# EAGLE library part 79109-50 (library untitled)
RECEPTACAL
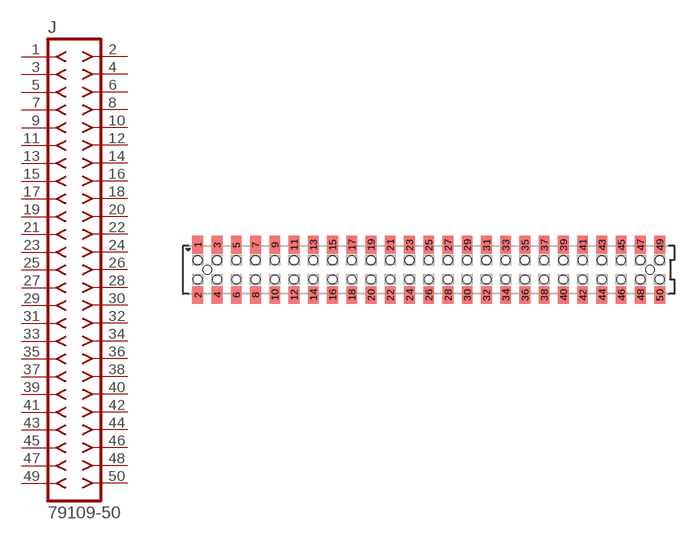
[diagram p182: symbol with the pads of 79109-50; footprint 79109-50]

Designator prefix J

## 79109-50  [79109-50]
1  1  pas
2  2  pas
3  3  pas
4  4  pas
5  5  pas
6  6  pas
7  7  pas
8  8  pas
9  9  pas
10  10  pas
11  11  pas
12  12  pas
13  13  pas
14  14  pas
15  15  pas
16  16  pas
17  17  pas
18  18  pas
19  19  pas
20  20  pas
21  21  pas
22  22  pas
23  23  pas
24  24  pas
25  25  pas
26  26  pas
27  27  pas
28  28  pas
29  29  pas
30  30  pas
31  31  pas
32  32  pas
33  33  pas
34  34  pas
35  35  pas
36  36  pas
37  37  pas
38  38  pas
39  39  pas
40  40  pas
41  41  pas
42  42  pas
43  43  pas
44  44  pas
45  45  pas
46  46  pas
47  47  pas
48  48  pas
49  49  pas
50  50  pas

## Footprint 79109-50 (pad centres in mm)
RECEPTACAL SMD Dual Row, Vertical, Pass-Thru
smd 1.12 x 1.83: 1 -24,2.6; 2 -24,-2.6; 3 -22,2.6; 4 -22,-2.6; 5 -20,2.6; 6 -20,-2.6; 7 -18,2.6; 8 -18,-2.6; 9 -16,2.6; 10 -16,-2.6; 11 -14,2.6; 12 -14,-2.6; 13 -12,2.6; 14 -12,-2.6; 15 -10,2.6; 16 -10,-2.6; 17 -8,2.6; 18 -8,-2.6; 19 -6,2.6; 20 -6,-2.6; 21 -4,2.6; 22 -4,-2.6; 23 -2,2.6; 24 -2,-2.6; 25 0,2.6; 26 0,-2.6; 27 2,2.6; 28 2,-2.6; 29 4,2.6; 30 4,-2.6; 31 6,2.6; 32 6,-2.6; 33 8,2.6; 34 8,-2.6; 35 10,2.6; 36 10,-2.6; 37 12,2.6; 38 12,-2.6; 39 14,2.6; 40 14,-2.6; 41 16,2.6; 42 16,-2.6; 43 18,2.6; 44 18,-2.6; 45 20,2.6; 46 20,-2.6; 47 22,2.6; 48 22,-2.6; 49 24,2.6; 50 24,-2.6
hole 0.914 at -23,0
hole 0.914 at -24,1
hole 0.914 at -24,-1
hole 0.914 at -22,-1
hole 0.914 at -22,1
hole 0.914 at -20,-1
hole 0.914 at -20,1
hole 0.914 at -18,1
hole 0.914 at -18,-1
hole 0.914 at -16,1
hole 0.914 at -16,-1
hole 0.914 at -14,1
hole 0.914 at -14,-1
hole 0.914 at -12,1
hole 0.914 at -12,-1
hole 0.914 at -10,-1
hole 0.914 at -10,1
hole 0.914 at -8,1
hole 0.914 at -8,-1
hole 0.914 at -6,1
hole 0.914 at -6,-1
hole 0.914 at -4,1
hole 0.914 at -4,-1
hole 0.914 at -2,-1
hole 0.914 at -2,1
hole 0.914 at 0,1
hole 0.914 at 2,1
hole 0.914 at 4,1
hole 0.914 at 0,-1
hole 0.914 at 2,-1
hole 0.914 at 4,-1
hole 0.914 at 6,-1
hole 0.914 at 8,-1
hole 0.914 at 10,-1
hole 0.914 at 12,-1
hole 0.914 at 14,-1
hole 0.914 at 6,1
hole 0.914 at 8,1
hole 0.914 at 10,1
hole 0.914 at 12,1
hole 0.914 at 14,1
hole 0.914 at 16,-1
hole 0.914 at 18,-1
hole 0.914 at 16,1
hole 0.914 at 18,1
hole 0.914 at 20,1
hole 0.914 at 22,1
hole 0.914 at 24,1
hole 0.914 at 20,-1
hole 0.914 at 22,-1
hole 0.914 at 24,-1
hole 0.914 at 23,0